# Altium footprint library F429.PcbLib: 61 footprints (part 4 of 4)
Each footprint in its own frame and in the unit in brackets; x right, y up, seen from the top. Pads: shape width x height; smd on the part's side, far side on the other; paste and mask are expansions set on the pad; w line width, h text height; cw(c..) or ccw(c..) is an arc to the next point about the centre after c.
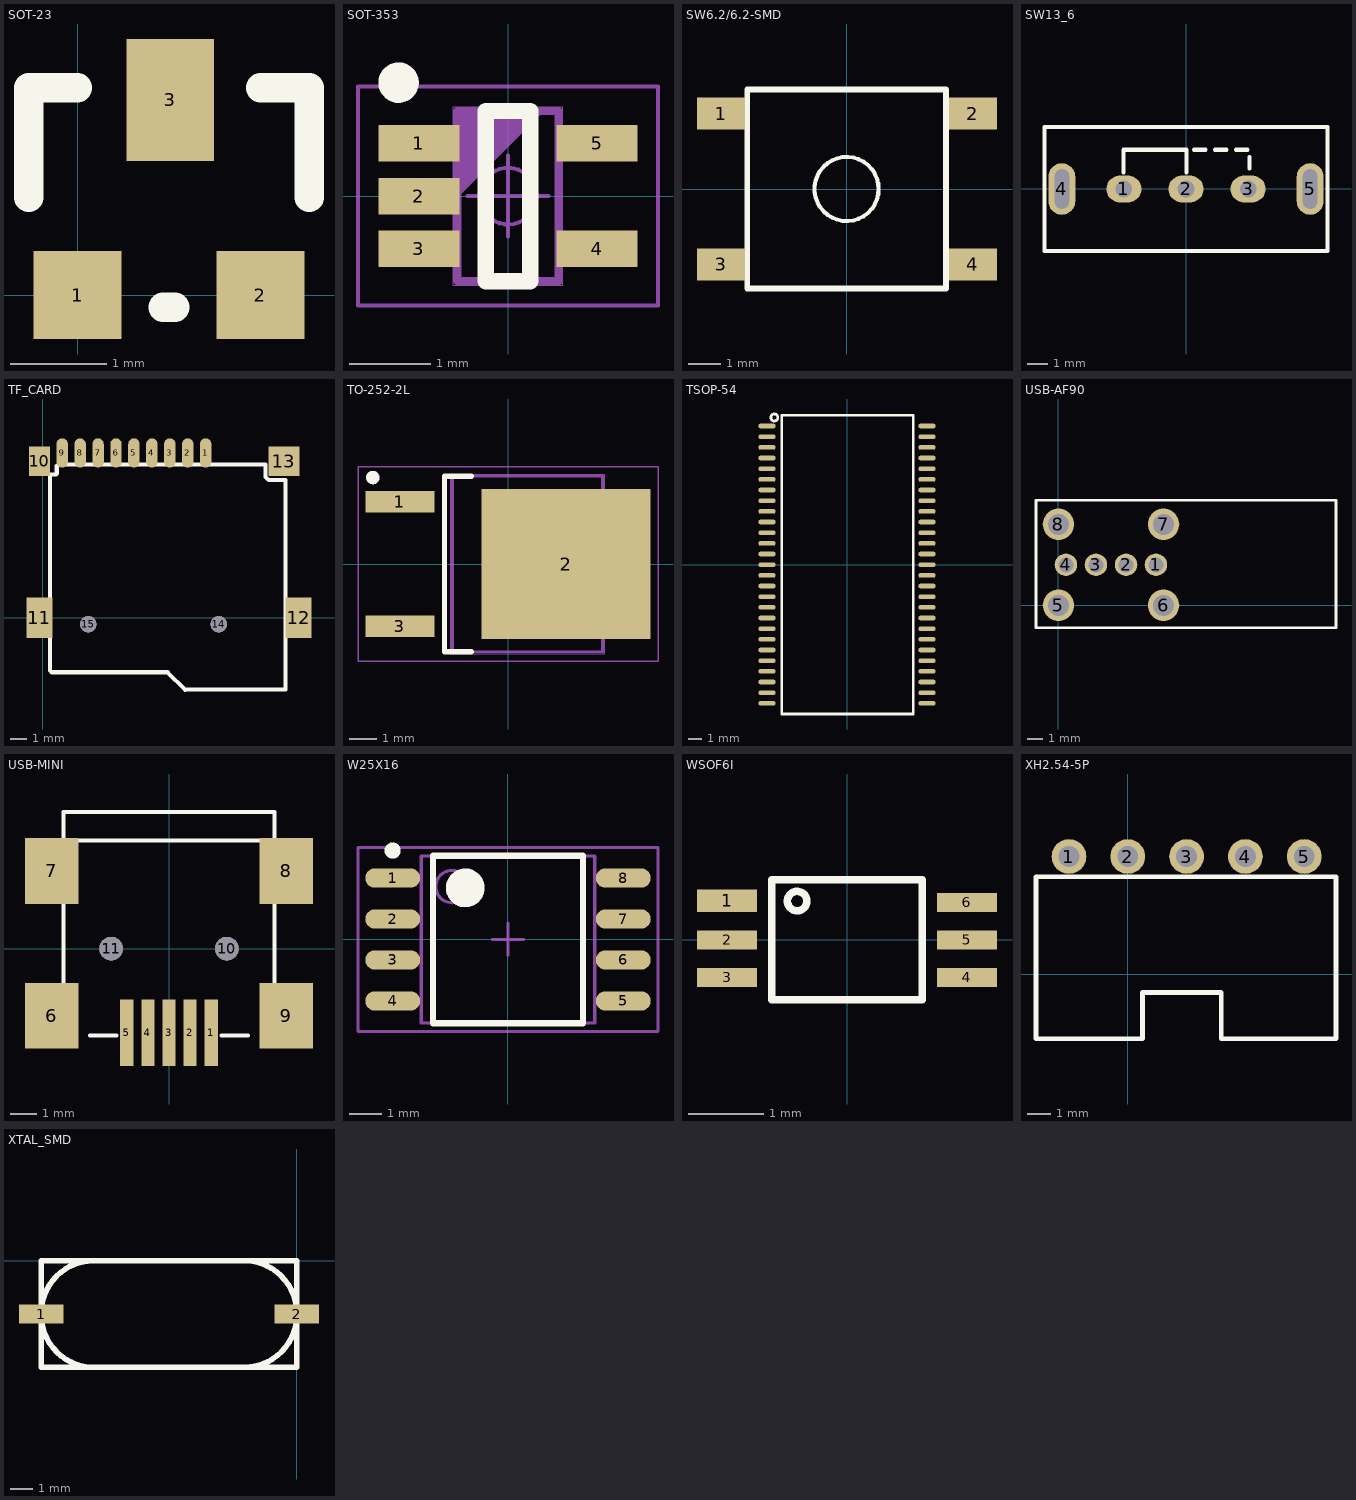
[diagram p3: the footprints below, top view; thin cyan lines are the x and y axes]

## SOT-23 [mil]
pads (3):
  rect 36x36 smd: 1(0,0) 2(75,0)
  rect 36x50 smd: 3(38,80)
Top Overlay:
  lines w12: -20,40 -20,85 0,85 ; 35,-5 40,-5 ; 75,85 95,85 95,40

## SOT-353 [mm]
height 1.1
pads (5):
  rect 1x0.45 smd: 1(-1.1,0.65) 2(-1.1,0) 3(-1.1,-0.65) 4(1.1,-0.65) 5(1.1,0.65)
Top Overlay:
  circle w0.25: c-1.35,1.4 r0.125
  lines w0.2: -0.275,-1.05 0.275,-1.05 0.275,1.05 -0.275,1.05 -0.275,-1.05
Mechanical 1:
  lines w0.1: -0.625,0.05 0.375,1.05 ; -0.625,0.15 0.275,1.05 ; -0.625,0.25 0.175,1.05 ; -0.625,0.35 0.075,1.05 ; -0.625,0.45 -0.025,1.05 ; -0.625,0.55 -0.125,1.05 ; -0.625,0.65 -0.225,1.05 ; -0.625,0.75 -0.325,1.05 ; -0.625,0.85 -0.425,1.05 ; -0.625,0.95 -0.525,1.05 ; -0.625,-1.05 0.625,-1.05 0.625,1.05 -0.625,1.05 -0.625,-1.05
  text "U18" at 0.255,-0.54 h0.43
Mechanical 16:
  circle w0.05: c0,0 r0.35
  lines w0.001: -0.675,-1.1 0.675,-1.1 0.675,1.1 -0.675,1.1 -0.675,-1.1
  lines w0.05: -0.5,0 0.5,0 ; 0,-0.5 0,0.5 ; -1.85,-1.35 1.85,-1.35 1.85,1.35 -1.85,1.35 -1.85,-1.35

## SW6.2/6.2-SMD [mm]
pads (4):
  rect 1.5x1 smd: 1(-3.912,2.35) 2(3.937,2.35) 3(-3.912,-2.35) 4(3.937,-2.35)
Top Overlay:
  circle w0.127: c0,0 r1
  lines w0.178: -3.1,-3.1 -3.1,3.1 3.1,3.1 3.1,-3.1 -3.1,-3.1

## SW13_6 [mm]
pads (5):
  oval 1.7x1.3 hole 0.8: 1(-3,0) 2(0,0) 3(3,0)
  oval 1.3x2.5 hole 0.7 slot 1.905 at 90 deg: 4(-6,0) 5(6,0)
Top Overlay:
  lines w0.203: -3.023,0.8 -3.023,1.9 0.025,1.9 0.025,0.8 ; 0.381,1.9 0.94,1.9 ; 1.397,1.9 1.956,1.9 ; 2.413,1.9 2.972,1.9 ; 3.073,0.984 3.073,1.543 ; -6.833,-3 6.833,-3 6.833,3 -6.833,3 -6.833,-3

## TF_CARD [mm]
pads (15):
  oval 0.7x1.8 smd: 1(10,10.1) 2(8.9,10.1) 3(7.8,10.1) 4(6.7,10.1) 5(5.6,10.1) 6(4.5,10.1) 7(3.4,10.1) 8(2.3,10.1) 9(1.2,10.1)
  rect 1.3x1.8 smd: 10(-0.2,9.6)
  rect 1.6x2.5 smd: 11(-0.2,0) 12(15.7,0)
  rect 1.9x1.8 smd: 13(14.8,9.6)
  round 1 hole 1: 14(10.8,-0.4) 15(2.8,-0.4)
Top Overlay:
  lines w0.254: 0.406,8.788 0.813,8.788 0.864,8.839 0.864,9.296 0.965,9.398 13.665,9.398 13.665,8.636 13.868,8.433 14.884,8.433 14.884,-4.4 8.738,-4.42 7.671,-3.353 0.559,-3.353 0.457,-3.251 0.457,8.738 0.406,8.788

## TO-252-2L [mm]
height 2.4
pads (3):
  rect 2.55x0.8 smd: 1(-4,2.3) 3(-4,-2.3)
  rect 6.25x5.55 smd: 2(2.15,0)
Top Overlay:
  circle w0.25: c-5,3.2 r0.125
  lines w0.2: -1.35,-3.25 -2.35,-3.25 -2.35,3.25 -1.35,3.25
Top Paste:
  region: -0.25,-2.06 1.79,-2.06 1.79,-0.36 -0.25,-0.36
  region: 2.51,-2.06 4.55,-2.06 4.55,-0.36 2.51,-0.36
  region: -0.25,0.36 1.79,0.36 1.79,2.06 -0.25,2.06
  region: 2.51,0.36 4.55,0.36 4.55,2.06 2.51,2.06
Mechanical 1:
  lines w0.1: 3.5,-2.668 3.946,-2.668 4.85,-1.666 4.85,1.666 3.946,2.668 3.5,2.668 ; -2.05,-3.25 3.5,-3.25 3.5,3.25 -2.05,3.25 -2.05,-3.25
  text "UP1" at -0.852,-0.45 h0.75
Mechanical 16:
  circle w0.05: c0,0 r0.35
  lines w0.001: -2.125,-3.325 3.575,-3.325 3.575,3.325 -2.125,3.325 -2.125,-3.325
  lines w0.05: -0.5,0 0.5,0 ; 0,-0.5 0,0.5 ; -5.55,-3.6 5.55,-3.6 5.55,3.6 -5.55,3.6 -5.55,-3.6

## TSOP-54 [mm]
pads (54):
  oval 1.3x0.35 smd: 1(-6,10.4) 2(-6,9.6) 3(-6,8.8) 4(-6,8) 5(-6,7.2) 6(-6,6.4) 7(-6,5.6) 8(-6,4.8) 9(-6,4) 10(-6,3.2) 11(-6,2.4) 12(-6,1.6) 13(-6,0.8) 14(-6,0) 15(-6,-0.8) 16(-6,-1.6) 17(-6,-2.4) 18(-6,-3.2) 19(-6,-4) 20(-6,-4.8) 21(-6,-5.6) 22(-6,-6.4) 23(-6,-7.2) 24(-6,-8) 25(-6,-8.8) 26(-6,-9.6) 27(-6,-10.4) 28(6,-10.4) 29(6,-9.6) 30(6,-8.8) 31(6,-8) 32(6,-7.2) 33(6,-6.4) 34(6,-5.6) 35(6,-4.8) 36(6,-4) 37(6,-3.2) 38(6,-2.4) 39(6,-1.6) 40(6,-0.8) 41(6,0) 42(6,0.8) 43(6,1.6) 44(6,2.4) 45(6,3.2) 46(6,4) 47(6,4.8) 48(6,5.6) 49(6,6.4) 50(6,7.2) 51(6,8) 52(6,8.8) 53(6,9.6) 54(6,10.4)
Top Overlay:
  circle w0.2: c-5.45,11.04 r0.262
  lines w0.2: -4.9,-11.2 4.96,-11.2 4.96,11.2 -4.9,11.2 -4.9,-11.2

## USB-AF90 [mm]
pads (8):
  rrect100% 1.5x1.5 hole 1: 1(6.5,2.7) 2(4.5,2.7) 3(2.5,2.7) 4(0.5,2.7)
  rrect100% 2.1x2.1 hole 1.4: 5(0,0) 6(7,0) 7(7,5.4) 8(0,5.4)
Top Overlay:
  lines w0.178: -1.5,-1.5 18.5,-1.5 18.5,7 -1.5,7 -1.5,-1.5

## USB-MINI [mm]
pads (11):
  rect 0.508x2.54 smd: 1(1.6,-3.2) 2(0.8,-3.2) 3(0,-3.2) 4(-0.8,-3.2) 5(-1.6,-3.2)
  rect 2.032x2.5 smd: 6(-4.45,-2.55) 7(-4.45,2.95) 8(4.45,2.95) 9(4.45,-2.55)
  round 0.9 hole 0.9 unplated: 10(2.2,0) 11(-2.2,0)
Top Overlay:
  lines w0.152: -4,-1.5 -4,1.9 ; -4,4 -4,5.2 4,5.2 4,4 ; -4,4.1 4,4.1 ; -3,-3.3 -2,-3.3 ; 2,-3.3 3,-3.3 ; 4,-1.5 4,1.9

## W25X16 [mm]
height 2.16
pads (8):
  oval 1.7x0.6 smd: 1(-3.575,1.905) 2(-3.575,0.635) 3(-3.575,-0.635) 4(-3.575,-1.905) 5(3.575,-1.905) 6(3.575,-0.635) 7(3.575,0.635) 8(3.575,1.905)
Top Overlay:
  circle w0.6: c-1.325,1.6 r0.3
  circle w0.25: c-3.575,2.755 r0.125
  lines w0.2: -2.325,-2.6 2.325,-2.6 2.325,2.6 -2.325,2.6 -2.325,-2.6
Mechanical 16:
  circle w0.1: c-1.74,1.64 r0.5
  lines w0.1: -0.5,0 0.5,0 ; 0,-0.5 0,0.5 ; -4.65,-2.85 4.65,-2.85 4.65,2.85 -4.65,2.85 -4.65,-2.85 ; -2.69,-2.59 2.69,-2.59 2.69,2.59 -2.69,2.59 -2.69,-2.59

## WSOF6I [mm]
pads (6):
  rect 0.8x0.3 smd: 1(-1.6,0.525)
  rect 0.8x0.25 smd: 2(-1.6,0) 3(-1.6,-0.5) 4(1.6,-0.5) 5(1.6,0) 6(1.6,0.5)
Top Overlay:
  circle w0.1: c-0.665,0.518 r0.13
  lines w0.1: -1,-0.8 1,-0.8 1,0.8 -1,0.8 -1,-0.8

## XH2.54-5P [mm]
pads (5):
  round 1.5 hole 0.9: 1(-2.54,5.08) 2(0,5.08) 3(2.54,5.08) 4(5.08,5.08) 5(7.62,5.08)
Top Overlay:
  lines w0.2: -3.964,-2.794 -3.964,4.206 8.992,4.206 8.992,-2.794 4.036,-2.794 4.036,-0.794 0.636,-0.794 0.636,-2.794 -3.964,-2.794

## XTAL_SMD [mm]
pads (2):
  rect 2x0.85 smd: 1(-11.5,-2.4) 2(0,-2.4)
Top Overlay:
  lines w0.254: -11.5,-2.469 -11.5,-2.4 ; -11.5,-2.468 ccw(c-9.135,-2.435) -9.102,-4.8 ; -11.5,-2.398 cw(c-9.135,-2.365) -9.168,0 ; -2.398,0 cw(c-2.365,-2.365) 0,-2.332 ; -2.332,-4.8 ccw(c-2.365,-2.435) 0,-2.402 ; 0,-2.4 0,-2.331 ; -11.5,-4.8 -11.5,0 0,0 0,-4.8 -11.5,-4.8